# Altium schematic symbol library BB-BONE-CAPE-IO.Schlib: 1 symbol
Pins are listed as number, name and electrical type; pins without a type are passive.

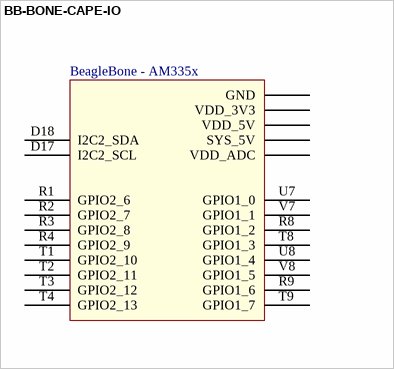
[diagram p0: symbol BB-BONE-CAPE-IO]

## BB-BONE-CAPE-IO
designator *
BeagleBone Cape IO component
pins: D17 I2C2_SCL, D18 I2C2_SDA, GND, R1 GPIO2_6, R2 GPIO2_7, R3 GPIO2_8, R4 GPIO2_9, R8 GPIO1_2, R9 GPIO1_6, SYS_5V, T1 GPIO2_10, T2 GPIO2_11, T3 GPIO2_12, T4 GPIO2_13, T8 GPIO1_3, T9 GPIO1_7, U7 GPIO1_0, U8 GPIO1_4, V7 GPIO1_1, V8 GPIO1_5, VDD_3V3 "VDD_3V3EXP", VDD_5V, VDD_ADC "VDD_ADC(1.8v)"
text: BeagleBone - AM335x